# EAGLE library part LM2907 (library MCE_CircuitosIntegrados)
LM2907/LM2917 Frequency to Voltage Converter
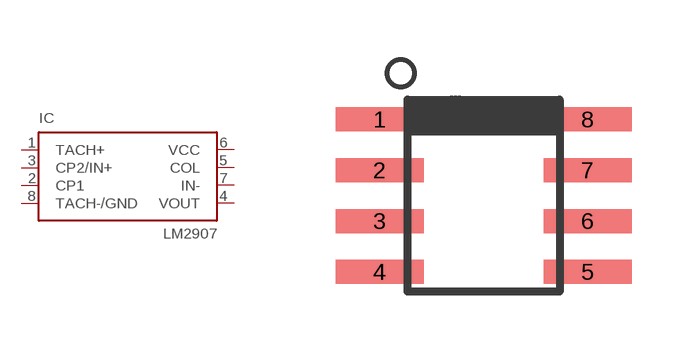
[diagram p15: symbol with the pads of SOIC8; footprint SOIC8]

Designator prefix IC

## LM2907  [SOIC8]
1  TACH+  in
2  CP1
3  CP2/IN+
4  VOUT  out
5  COL
6  VCC  pwr
7  IN-
8  TACH-/GND  pwr

## Footprint SOIC8 (pad centres in mm)
Small Outline Narrow Plastic Gull Wing 150-mil body, package type SN
smd 2.2 x 0.6: 1 -2.6,1.905; 2 -2.6,0.635; 3 -2.6,-0.635; 4 -2.6,-1.905; 5 2.6,-1.905; 6 2.6,-0.635; 7 2.6,0.635; 8 2.6,1.905